# Altium footprint library AMPHENOL_10174819-00011LF.PcbLib: 1 footprints
Each footprint in its own frame and in the unit in brackets; x right, y up, seen from the top. Pads: shape width x height; smd on the part's side, far side on the other; paste and mask are expansions set on the pad; w line width, h text height; cw(c..) or ccw(c..) is an arc to the next point about the centre after c.
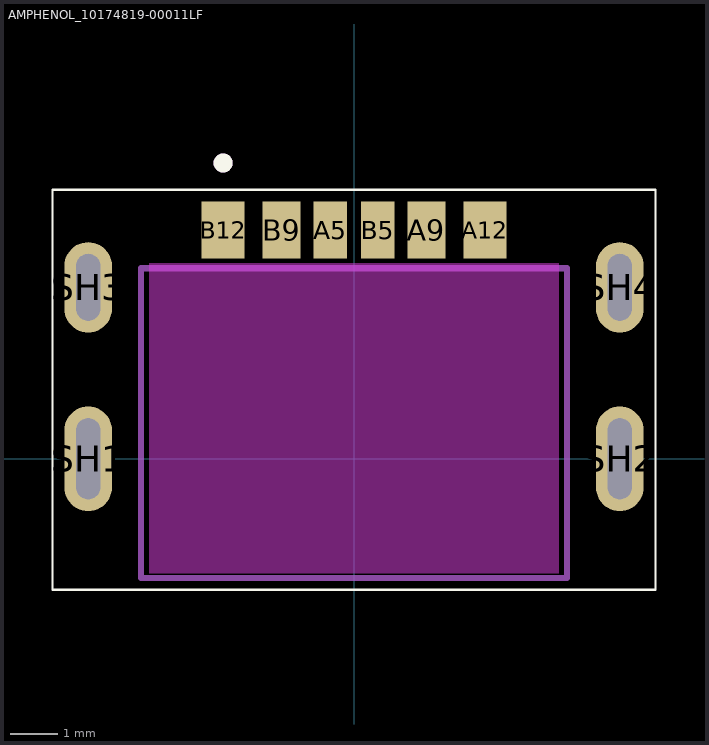
[diagram p0: the footprint, top view; thin cyan lines are the x and y axes]

## AMPHENOL_10174819-00011LF [mm]
height 3.14
pads (10):
  rect 0.7x1.2 smd: A5(-0.5,4.8) B5(0.5,4.8)
  rect 0.8x1.2 smd: A9(1.52,4.8) B9(-1.52,4.8)
  rect 0.9x1.2 smd: A12(2.75,4.8) B12(-2.75,4.8)
  oval 1x2.2 hole 0.5 slot 1.7 at 90 deg: SH1(-5.58,0) SH2(5.58,0)
  oval 1x1.9 hole 0.5 slot 1.4 at 90 deg: SH3(-5.58,3.6) SH4(5.58,3.6)
Top Overlay:
  circle w0.2: c-2.75,6.21 r0.1
  lines w0.05: -6.33,-2.75 6.33,-2.75 6.33,5.65 -6.33,5.65 -6.33,-2.75
Keep-Out Layer:
  board cut-out: 4.3,4.1 -4.3,4.1 -4.3,-2.4 4.3,-2.4
Mechanical 13:
  circle w0.2: c-2.75,6.21 r0.1
  lines w0.127: -4.47,-2.5 4.47,-2.5 4.47,4 -4.47,4 -4.47,-2.4 -4.47,-2.5
3D body "step_temp.STEP": height 2.39, standoff -0.85, extent -5.73,-2.5 5.73,4.9